# Altium schematic symbol library HC05_Sche.SchLib: 1 symbol
Pins are listed as number, name and electrical type; pins without a type are passive.

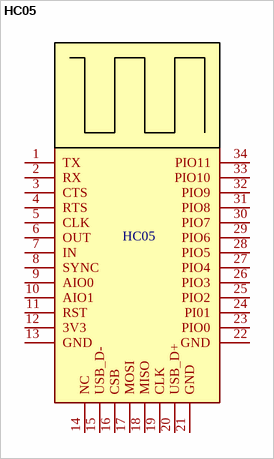
[diagram p0: symbol HC05]

## HC05
designator HC05  (value not drawn)
footprint PCBComponent_1
pins: 1 TX, 2 RX, 3 CTS, 4 RTS, 5 CLK, 6 OUT, 7 IN, 8 SYNC, 9 AIO0, 10 AIO1, 11 RST, 12 3V3, 13 GND, 14 NC, 15 USB_D-, 16 CSB, 17 MOSI, 18 MISO, 19 CLK, 20 USB_D+, 21 GND, 22 GND, 23 PIO0, 24 PI01, 25 PIO2, 26 PIO3, 27 PIO4, 28 PIO5, 29 PIO6, 30 PIO7, 31 PIO8, 32 PIO9, 33 PIO10, 34 PIO11